# Altium schematic symbol library Altium-RECT.SchLib: 50 symbols
Pins are listed as number, name and electrical type; pins without a type are passive.

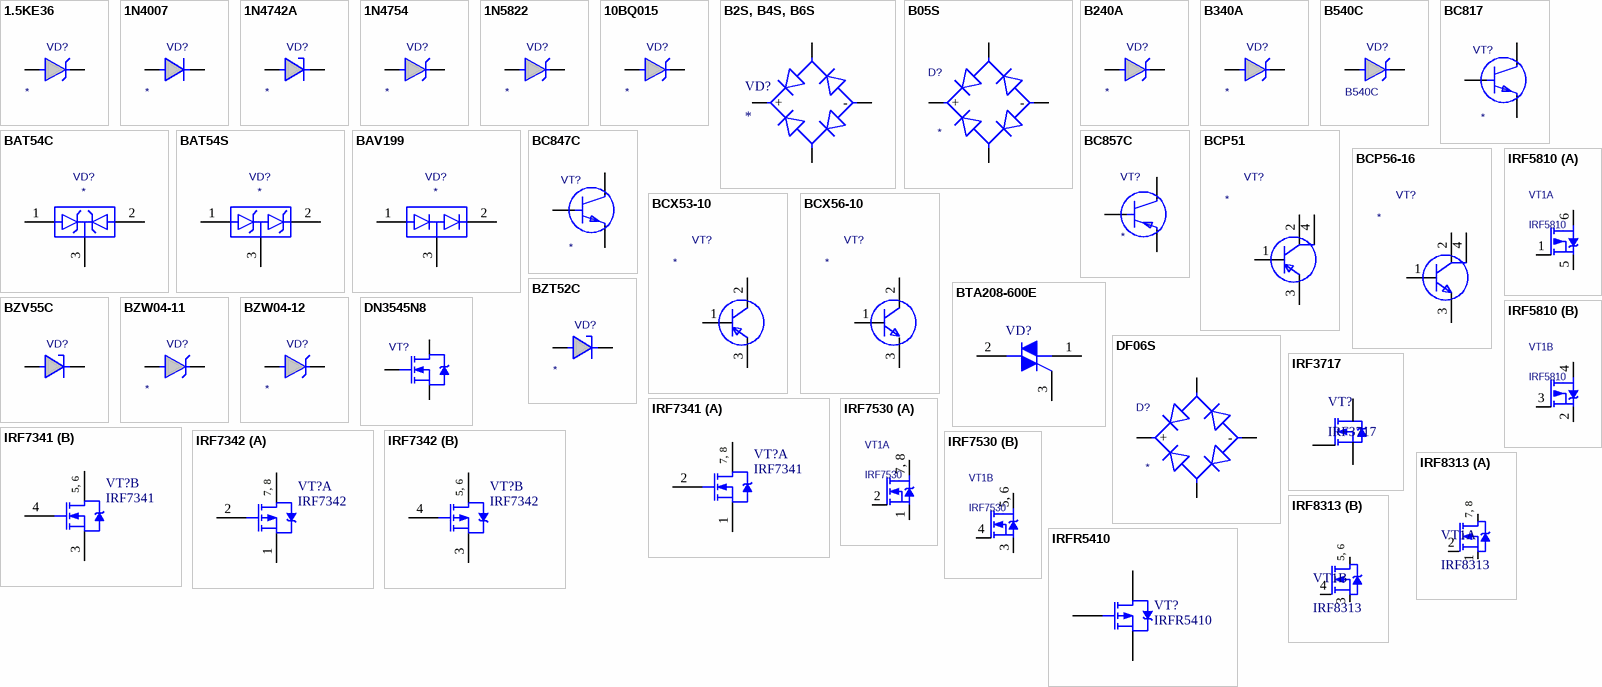
[diagram p0: symbols 1.5KE36 to IRFR5410]

## 1.5KE36
designator VD?
1.5KE36; Value: *
footprint DO-201AD
pins: 1 K, 2 A

## 1N4007
designator VD?
1N4007; Value: *
footprint DO-41
pins: 1 K, 2 A

## 1N4742A
designator VD?
1N4742A; Value: *
footprint DO-41
pins: 1 K, 2 A

## 1N4754
designator VD?
1N4754; Value: *
footprint DO-204AC
pins: 1 K, 2 A

## 1N5822
designator VD?
1N5822; Value: *
footprint DO-201AD
pins: 1 K, 2 A

## 10BQ015
designator VD?
10BQ015; Value: *
footprint SMB
pins: 1 K, 2 A

## B2S, B4S, B6S
designator VD?
Diode bridge
footprint TO-269AA (MBS)
pins: AC1 AC, AC2 AC, minus -, plus +

## B05S
designator D?
Diode bridge, 0.5A, 50V; Value: *
footprint DF0XS
pins: AC1 AC, AC2 AC, minus -, plus +

## B240A
designator VD?
2A Surface Mount Schottky-Rectifiers
footprint DO-214AC
pins: 1 K, 2 A

## B340A
designator VD?
3A Surface Mount Schottky-Rectifiers
footprint DO-214AC
pins: 1 K, 2 A

## B540C
designator VD?
5A Surface Mount Schottky-Rectifiers; Value: B540C
footprint SMC (http://www.vishay.com/docs/95023/smc.pdf)
pins: 1 K, 2 A

## BAT54C
designator VD?
Schottky barrier (double) diodes
footprint SOT-23
pins: 1 a, 2 c, 3 ka

## BAT54S
designator VD?
Schottky barrier (double) diodes
footprint SOT-23
pins: 1 a, 2 c, 3 ka
1 alternate drawing of the same symbol

## BAV199
designator VD?
BAV199; Value: *
footprint SOT-23
pins: 1 a, 2 c, 3 ka

## BC817
designator VT?
BC817; Value: *
footprint SOT-23
pins: 1 B, 2 E, 3 C

## BC847C
designator VT?
BC847C; Value: *
footprint SOT-23
pins: 1 B, 2 E, 3 C

## BC857C
designator VT?
BC857C; Value: *
footprint SOT-23
pins: 1 B, 2 E, 3 C

## BCP51
designator VT?
PNP Bipolar Transistor
footprint SOT-223
pins: 1 B, 2 C, 3 E, 4 C

## BCP56-16
designator VT?
NPN Bipolar Transistor; Value: *
footprint SOT-223
pins: 1 B, 2 C, 3 E, 4 C

## BCX53-10
designator VT?
PNP Bipolar Transistor
footprint SOT89N (SOT89, 3-Leads, Body 4.5x2.4 mm, Pitch 1.5mm, Lead Span 4.1mm, IPC Medium Density)
pins: 1 B, 2 C, 3 E

## BCX56-10
designator VT?
NPN Bipolar Transistor
footprint SOT89N (SOT89, 3-Leads, Body 4.5x2.4 mm, Pitch 1.5mm, Lead Span 4.1mm, IPC Medium Density)
pins: 1 B, 2 C, 3 E

## BTA208-600E
designator VD?
Three quadrant triacs
footprint TO-220 (TO, Thru-Hole, Vertical, Heatsink Mounted; 3 In-Line Leads; Pitch 2.54 mm)
footprint TO-220 - NT (TO, Thru-Hole, Vertical, Heatsink Mounted; 3 In-Line Leads; Pitch 2.54 mm)
pins: 1 M1, 2 M2, 3 G

## BZT52C
designator VD?
ZENER DIODES FOR SURFACE MOUNT; Value: *
footprint SOD-323
pins: 1 K, 2 A

## BZV55C
designator VD?
ZENER DIODES FOR SURFACE MOUNT
footprint DO-213AA (DO-213-AA; 2 C-Bend Leads; Body 3.7 x 1.7 mm, inc. leads (LxW))
pins: 1 K, 2 A

## BZW04-11
designator VD?
BZW04-11; Value: *
footprint DO-204AC
pins: 1 K, 2 A

## BZW04-12
designator VD?
BZW04-12; Value: *
footprint DO-204AC
pins: 1 A, 2 K

## DF06S
designator D?
Diode bridge, 1A, 600V; Value: *
footprint DF0XS
pins: AC1 AC, AC2 AC, minus -, plus +

## DN3545N8
designator VT?
N-Channel, DMOS FET
footprint SOT89N (SOT89, 3-Leads, Body 4.5x2.4 mm, Pitch 1.5mm, Lead Span 4.1mm, IPC Medium Density)
pins: 1 G, 2 D, 3 S

## IRF3717
designator VT?
HEXFET  Power MOSFET N channel
footprint SO8 (SOIC, 8-Leads, Body 4.9x3.9mm, Pitch 1.27mm, IPC High Density)
pins: 1, 2, 3, 4, 5, 6, 7, 8

## IRF5810
designator VT1
HEXFET Power MOSFET P channel
footprint Micro6 (IRLMS1503 footprint)
part A pins: 1 G1, 5 S1, 6 D1
part B pins: 2 S2, 3 G2, 4 D2

## IRF7341
designator VT?
HEXFET Power MOSFET N channel
footprint SO8 (SOIC, 8-Leads, Body 4.9x3.9mm, Pitch 1.27mm, IPC High Density)
part A pins: 1 S, 2 G, 7 D, 8 D
part B pins: 3 S, 4 G, 5 D, 6 D
part A text: 7, 8
part B text: 5, 6

## IRF7342
designator VT?
HEXFET Power MOSFET P channel
footprint SO8
part A pins: 1 S, 2 G, 7 D, 8 D
part B pins: 3 S, 4 G, 5 D, 6 D
part A text: 7, 8
part B text: 5, 6

## IRF7530
designator VT1
HEXFET Power MOSFET N channel
footprint Micro8
part A pins: 1 S1, 2 G1, 7 D1, 8 D1
part B pins: 3 S2, 4 G2, 5 D2, 6 D2
part A text: 7, 8
part B text: 5, 6

## IRF8313
designator VT1
HEXFET Power MOSFET N channel
footprint SO8 (SOIC, 8-Leads, Body 4.9x3.9mm, Pitch 1.27mm, IPC High Density)
part A pins: 1 S, 2 G, 7 D, 8 D
part B pins: 3 S, 4 G, 5 D, 6 D
part A text: 7, 8
part B text: 5, 6

## IRFR5410
designator VT?
HEXFET Power MOSFET P channel; Value: IRFR5410
footprint TO-252AA (D-PAK/TO-252-AA; 3 Leads (1 Cropped); Body 10.4 (inc. leads) x 6.7 mm (LxW max))
simulation model IRFR9024 (SUBCKT)
pins: 1 G, 3 S, 4 D

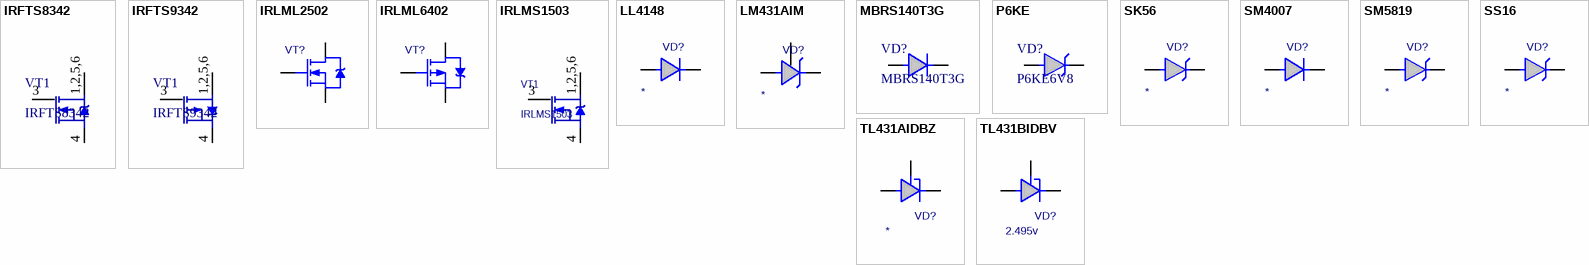
[diagram p1: symbols IRFTS8342 to TL431BIDBV]

## IRFTS8342
designator VT1
HEXFET Power Mosfet N channel
footprint Micro6 (IRLMS1503 footprint)
pins: 1 D, 2 D, 3 G, 4 S, 5 D, 6 D
text: 1,2,5,6

## IRFTS9342
designator VT1
HEXFET Power MOSFET P channel
footprint Micro6 (IRLMS1503 footprint)
pins: 1 D, 2 D, 3 G, 4 S, 5 D, 6 D
text: 1,2,5,6

## IRLML2502
designator VT?
N-Channel, HEXFET Power MOSFET
footprint SOT-23
pins: 1 G, 2 S, 3 D

## IRLML6402
designator VT?
P-Channel, HEXFET Power MOSFET
footprint SOT-23
pins: 1 G, 2 S, 3 D

## IRLMS1503
designator VT1
N-Channel, HEXFET Power MOSFET
footprint Micro6 (IRLMS1503 footprint)
pins: 1 D, 2 D, 3 G, 4 S, 5 D, 6 D
text: 1,2,5,6

## LL4148
designator VD?
LL4148; Value: *
footprint SOD80
pins: 1 K, 2 A

## LM431AIM
designator VD?
Adjustable Precision Zener Shunt Regulator; Value: *
footprint SOT-23
pins: 1 K, 2 REF, 3 A

## MBRS140T3G
designator VD?
Surface Mount Schottky Power Rectifier
footprint SMB (http://www.vishay.com/docs/95017/smb.pdf)
pins: 1 K, 2 A

## P6KE
designator VD?, comment P6KE6V8
Transil™, transient voltage surge suppressor (TVS)
footprint DO-204AC
pins: 1 K, 2 A

## SK56
designator VD?
SCHOTTKY BARRIER RECTIFIER
footprint SMC
pins: 1 K, 2 A

## SM4007
designator VD?
SM4007; Value: *
footprint DO-213AB
pins: 1 K, 2 A

## SM5819
designator VD?
Surface Mount Schottky-Rectifiers; Value: *
footprint DO-213AB
pins: 1 K, 2 A

## SS16
designator VD?
SS16; Value: *
footprint SMA
pins: 1 K, 2 A

## TL431AIDBZ
designator VD?
TL431AIDBZ; Value: *
footprint SOT-23
pins: 1 K, 2 ref, 3 A

## TL431BIDBV
designator VD?, comment 2.495v
Adjustable  Precision Reference; Value: 2.495v
footprint SOT-23-5
pins: 3 K, 4 ref, 5 A